# Altium footprint library SOT.PcbLib: 5 footprints
Each footprint in its own frame and in the unit in brackets; x right, y up, seen from the top. Pads: shape width x height; smd on the part's side, far side on the other; paste and mask are expansions set on the pad; w line width, h text height; cw(c..) or ccw(c..) is an arc to the next point about the centre after c.
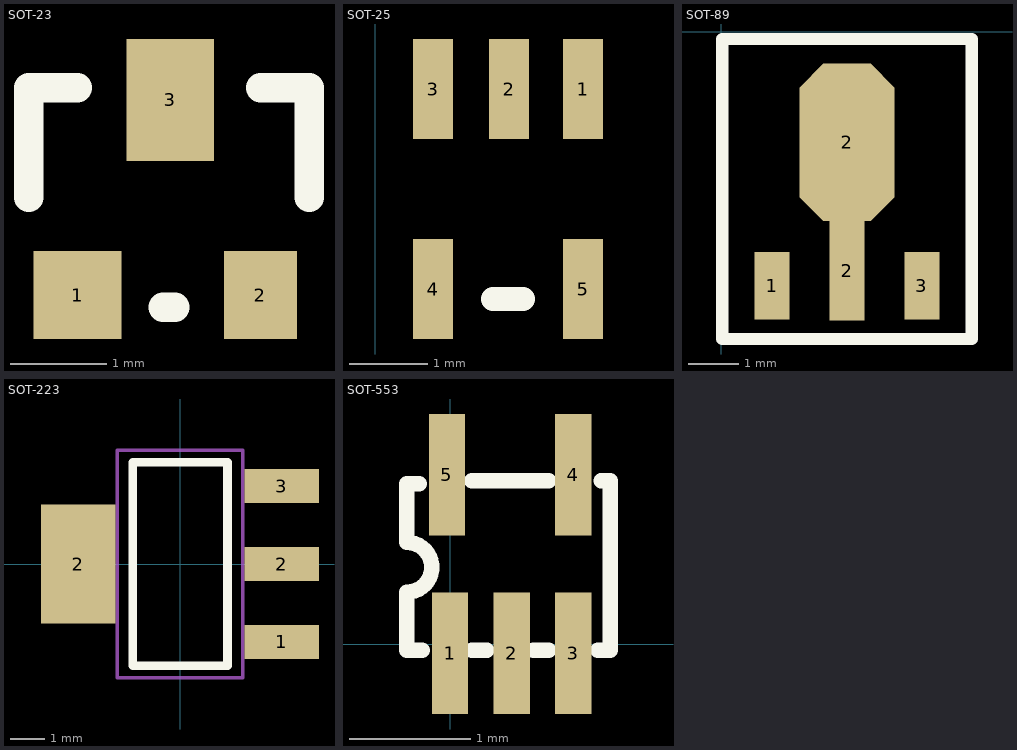
[diagram p0: the footprints below, top view; thin cyan lines are the x and y axes]

## SOT-23 [mil]
pads (3):
  rect 36x36 smd: 1(47.76,-120.28)
  rect 30x36 smd: 2(122.75,-120.28)
  rect 36x50 smd: 3(85.75,-40.28)
Top Overlay:
  lines w12: 27.75,-80.28 27.75,-35.28 47.76,-35.28 ; 82.75,-125.28 87.75,-125.28 ; 122.75,-35.28 142.75,-35.28 142.75,-80.28

## SOT-25 [mil]
pads (5):
  rect 20x50 smd: 1(104,-40) 2(67,-40) 3(29,-40) 4(29,-140) 5(104,-140)
Top Overlay:
  lines w12: 59,-145 74,-145

## SOT-89 [mm]
pads (4):
  rect 0.7x1.35 smd: 1(1.016,-5.08) 3(4.016,-5.08)
  rect 0.7x1.99 smd: 2(2.516,-4.785)
  oct 1.9x3.15 smd: 2(2.516,-2.215)
Top Overlay:
  lines w0.25: 0.016,-6.148 0.016,-0.147 5.016,-0.147 5.016,-6.148 0.016,-6.148

## SOT-223 [mm]
pads (4):
  rect 2.2x1 smd: 1(3,-2.3) 2(3,0) 3(3,2.3)
  rect 2.2x3.5 smd: 2(-3,0)
Top Overlay:
  lines w0.254: -1.4,-3 1.4,-3 1.4,3 -1.4,3 -1.4,-3
Mechanical 13:
  lines w0.1: -1.85,-3.35 -1.85,3.35 1.85,3.35 1.85,-3.35 -1.85,-3.35
3D body "TO-223.STEP": height 1.64, standoff -0.04, extent -3.49,-3.242 3.49,3.243

## SOT-553 [mm]
pads (5):
  rect 0.3x1 smd: 1(0,-0.076) 2(0.508,-0.076) 3(1.016,-0.076) 4(1.016,1.397) 5(-0.025,1.397)
Top Overlay:
  lines w0.127: -0.254,1.321 -0.356,1.321 -0.356,0.838 cw(c-0.356,0.633) -0.356,0.429 -0.356,-0.051 -0.229,-0.051 ; 0.178,-0.051 0.305,-0.051 ; 0.178,1.346 0.813,1.346 ; 0.686,-0.051 0.813,-0.051 ; 1.219,-0.051 1.321,-0.051 1.321,1.346 1.245,1.346